# Altium footprint library Molex46112-0803.PcbLib: 1 footprints
Each footprint in its own frame and in the unit in brackets; x right, y up, seen from the top. Pads: shape width x height; smd on the part's side, far side on the other; paste and mask are expansions set on the pad; w line width, h text height; cw(c..) or ccw(c..) is an arc to the next point about the centre after c.
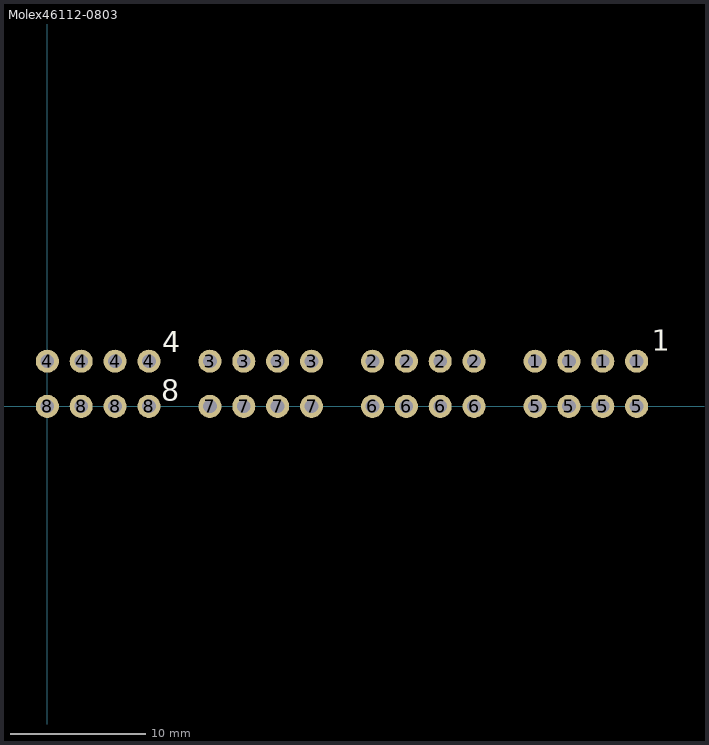
[diagram p0: the footprint, top view; thin cyan lines are the x and y axes]

## Molex46112-0803 [mm] "Molex46112-0803"
pads (32):
  round 1.7 hole 1.02: 1(36,3.33) 1(38.5,3.33) 1(41,3.33) 1(43.5,3.33) 2(24,3.33) 2(26.5,3.33) 2(29,3.33) 2(31.5,3.33) 3(12,3.33) 3(14.5,3.33) 3(17,3.33) 3(19.5,3.33) 4(0,3.33) 4(2.5,3.33) 4(5,3.33) 4(7.5,3.33) 5(36,0) 5(38.5,0) 5(41,0) 5(43.5,0) 6(24,0) 6(26.5,0) 6(29,0) 6(31.5,0) 7(12,0) 7(14.5,0) 7(17,0) 7(19.5,0) 8(0,0) 8(2.5,0) 8(5,0) 8(7.5,0)
Top Overlay:
  text "8" at 8.4,0.4 h1.52
  text "4" at 8.5,4 h1.52
  text "1" at 44.6,4.1 h1.52
3D body: height 0.25, standoff 0, extent 53.5,6 53.5,6
3D body: height 0.25, standoff 0, extent 22,1.75 22,1.75
3D body "461120803.stp": height 19.22, standoff -1.38, extent -5.16,-2.565 49.78,5.766